# EAGLE library part CON_RJ45 (library isysbus_mechanical)
Connector: 8pin RJ45 Order numbers: - Reichelt: MEBP 8-8G - CSD-Electronics: 015-5402
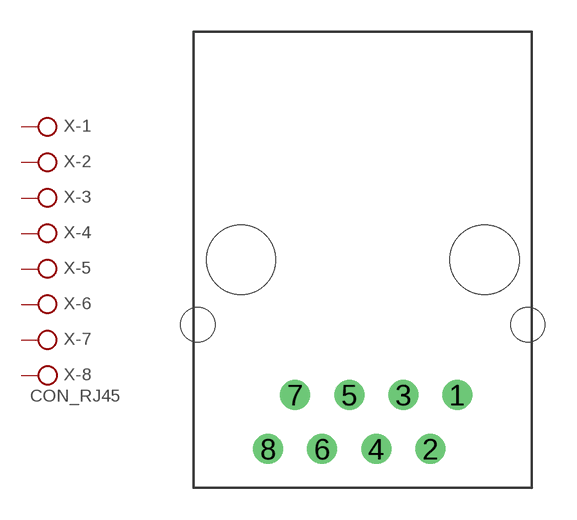
[diagram p0: symbol with the pads of RJ45; footprint RJ45]

Designator prefix X; gates -1=PIN -2=PIN -3=PIN -4=PIN -5=PIN -6=PIN -7=PIN -8=PIN+VALUE

## CON_RJ45  [RJ45]
1  -1:P$1  pas
2  -2:P$1  pas
3  -3:P$1  pas
4  -4:P$1  pas
5  -5:P$1  pas
6  -6:P$1  pas
7  -7:P$1  pas
8  -8:P$1  pas

## Footprint RJ45 (pad centres in mm)
drill 0.9 round: 1 3.81,-6.35; 2 2.54,-8.89; 3 1.27,-6.35; 4 0,-8.89; 5 -1.27,-6.35; 6 -2.54,-8.89; 7 -3.81,-6.35; 8 -5.08,-8.89
hole 3.25 at -6.35,0
hole 3.25 at 5.08,0
hole 1.6 at 7.11,-3.05
hole 1.6 at -8.38,-3.05